# Altium schematic symbol library SMSA 2805.Schlib: 1 symbol
Pins are listed as number, name and electrical type; pins without a type are passive.

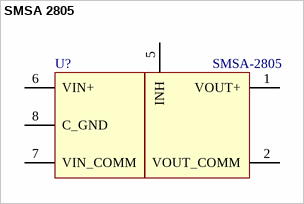
[diagram p0: symbol SMSA 2805]

## SMSA 2805
designator U?, comment SMSA-2805
Назначение: DC-DC преобразователь; Наименование: SMSA-2805
footprint SMSA 2805
pins: 1 VOUT+, 2 VOUT_COMM, 3 NC hidden, 4 NC hidden, 5 INH, 6 VIN+, 7 VIN_COMM, 8 C_GND